# Altium footprint library Diodes.PcbLib: 57 footprints (part 3 of 4)
Each footprint in its own frame and in the unit in brackets; x right, y up, seen from the top. Pads: shape width x height; smd on the part's side, far side on the other; paste and mask are expansions set on the pad; w line width, h text height; cw(c..) or ccw(c..) is an arc to the next point about the centre after c.
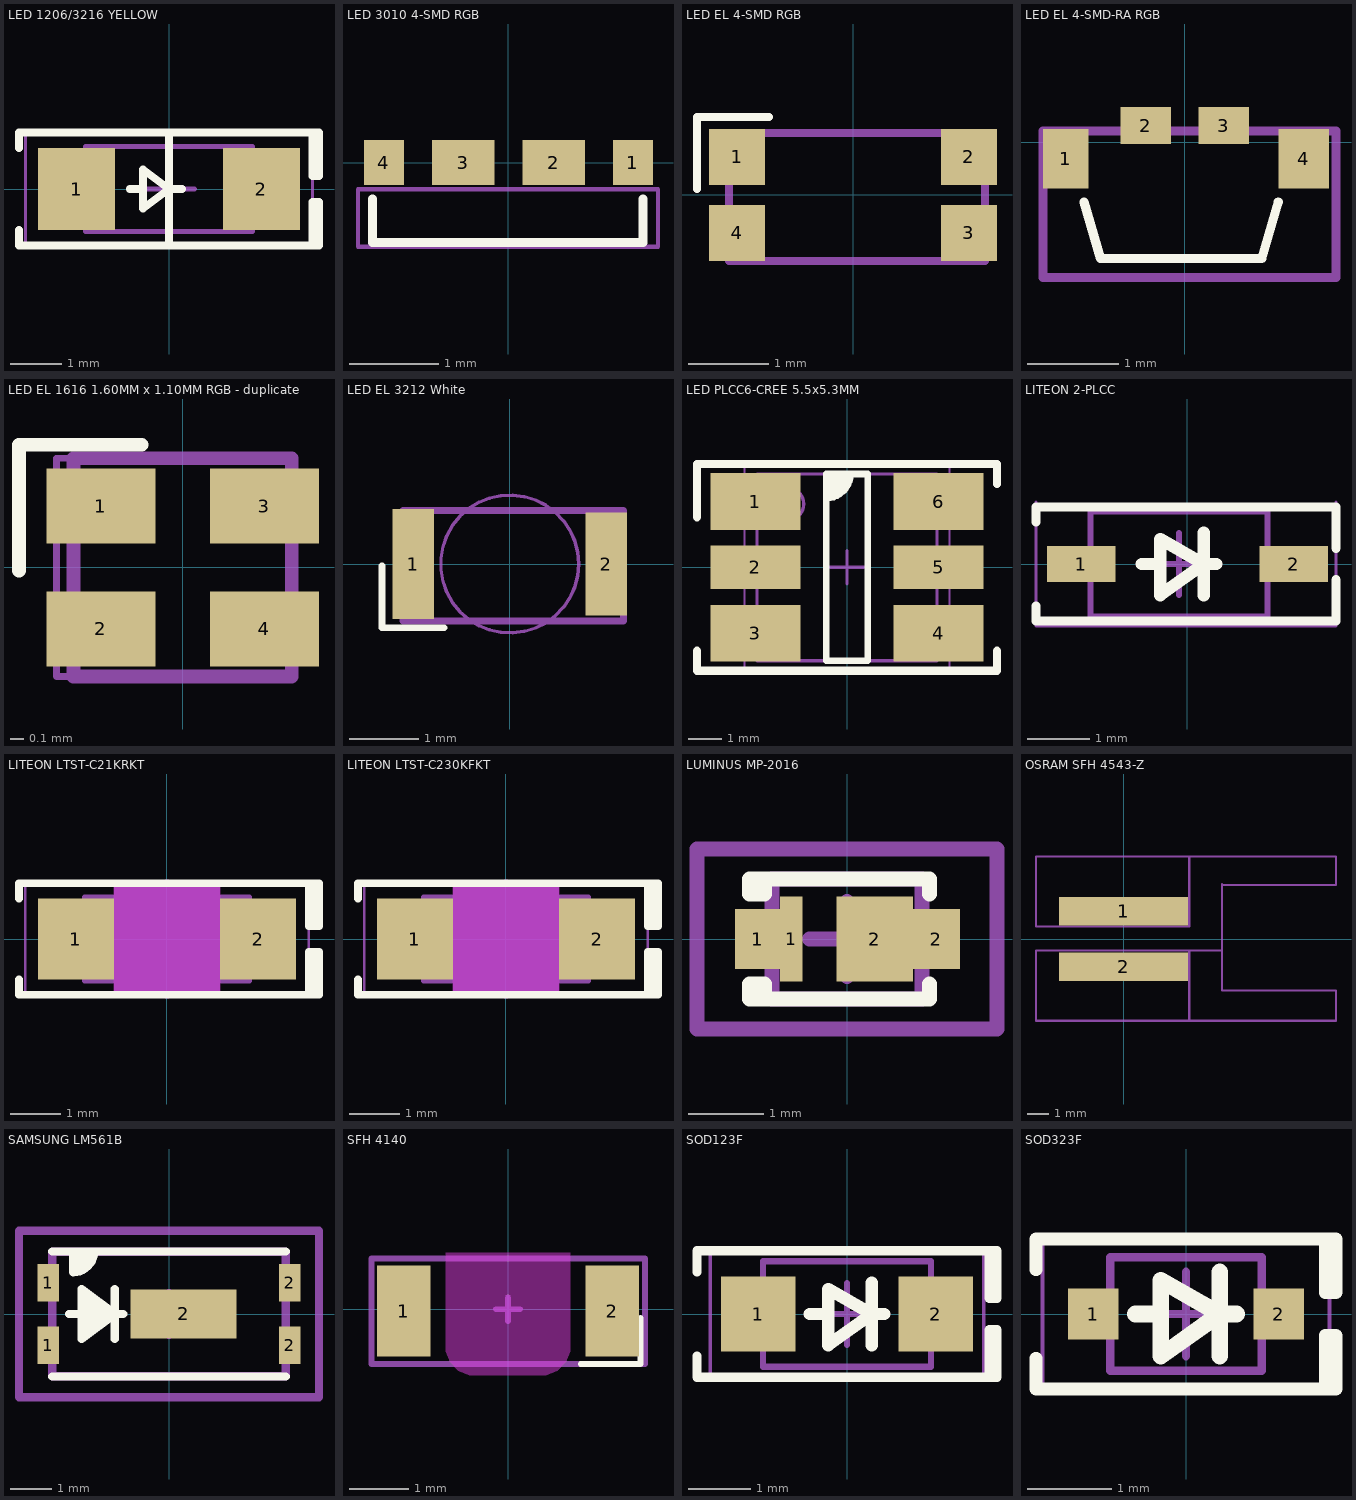
[diagram p2: the footprints below, top view; thin cyan lines are the x and y axes]

## LED 1206/3216 YELLOW [mm] "Chip Diode, 2-Leads, Body 3.13x1.55mm, IPC Medium Density"
height 0.7
pads (2):
  rect 1.5x1.6 smd: 1(-1.8,0) 2(1.8,0)
Top Overlay:
  lines w0.15: -2.921,-0.8 -2.921,-1.1 2.794,-1.1 ; -2.921,0.8 -2.921,1.1 2.794,1.1 ; -0.762,0 -0.508,0 ; 0,-1.1 0,1.1 ; 0.254,0 0,0 ; 0,0 -0.508,0.381 -0.508,-0.381 0,0 ; 2.794,-1.1 2.794,-0.254 2.921,-0.254 2.921,-1.1 2.794,-1.1 ; 2.794,1.1 2.794,0.254 2.921,0.254 2.921,1.1 2.794,1.1
Mechanical 13:
  lines w0.1: -1.625,-0.825 -1.625,0.825 1.625,0.825 1.625,-0.825 -1.625,-0.825
Mechanical 15:
  lines w0.05: -2.794,-1.1 -2.794,1.1 2.794,1.1 2.794,-1.1 -2.794,-1.1
  lines w0.1: -0.5,0 0.5,0 ; 0,-0.5 0,0.5
3D body "LED 1206 Base YELLOW.STEP": height 0.4, standoff 0, extent -1.6,-0.8 1.6,0.8
3D body "LED 1206 Lens YELLOW.STEP": height 0.9, standoff 0.3, extent -0.75,-0.8 0.75,0.8

## LED 3010 4-SMD RGB [mm] "SOJ, 6-Leads, Body 3.2x1.2mm, IPC Medium Density"
height 1
pads (4):
  rect 0.45x0.5 smd: 1(1.39,0) 4(-1.39,0)
  rect 0.7x0.5 smd: 2(0.505,0) 3(-0.505,0)
Top Overlay:
  lines w0.1: -1.52,-0.891 -1.519,-0.405 ; -1.519,-0.891 1.501,-0.891 ; 1.5,-0.891 1.501,-0.405
Mechanical 15:
  lines w0.05: -1.68,-0.94 1.67,-0.94 1.67,-0.3 -1.68,-0.3 -1.68,-0.94
3D body "EASV3010RGBA0.STEP": height 0.4, standoff 0, extent -1.504,-0.885 1.496,0.115

## LED EL 4-SMD RGB [mm] "SOJ, 6-Leads, Body 3.2x1.2mm, IPC Medium Density"
height 2.6
pads (4):
  rect 0.7x0.7 smd: 1(-1.45,0.475) 2(1.45,0.475) 3(1.45,-0.475) 4(-1.45,-0.475)
Top Overlay:
  lines w0.1: -1.95,0.07 -1.95,0.97 -1.05,0.97
Mechanical 13:
  lines w0.1: -1.55,-0.825 1.65,-0.825 1.65,0.775 -1.55,0.775 -1.55,-0.825
Mechanical 15:
  lines w0.05: -1.55,-0.825 1.65,-0.825 1.65,0.775 -1.55,0.775 -1.55,-0.825
3D body "EL 23B.step": height 0.31, standoff -0.79, extent -1.59,-0.625 1.61,0.625

## LED EL 4-SMD-RA RGB [mm] "SOJ, 6-Leads, Body 3.2x1.2mm, IPC Medium Density"
height 1
pads (4):
  rect 0.5x0.65 smd: 1(-1.3,-0.18)
  rect 0.55x0.4 smd: 2(-0.425,0.18) 3(0.425,0.18)
  rect 0.55x0.65 smd: 4(1.3,-0.18)
Top Overlay:
  lines w0.1: -1.1,-0.655 -0.921,-1.269 0.84,-1.269 1.019,-0.655
Mechanical 13:
  lines w0.1: -1.55,-1.48 1.65,-1.48 1.65,0.12 -1.55,0.12 -1.55,-1.48
Mechanical 15:
  lines w0.05: -1.55,-1.48 1.65,-1.48 1.65,0.12 -1.55,0.12 -1.55,-1.48
3D body "EASV2713RGBAx.step": height 0.5, standoff 0, extent -1.39,-1.29 1.311,0.171

## LED EL 1616 1.60MM x 1.10MM RGB - duplicate [mm] "SOJ, 6-Leads, Body 1.60x1.0mm, Pitch 0.80mm, IPC Medium Density"
height 2.6
pads (4):
  rect 0.8x0.55 smd: 1(-0.6,0.45) 2(-0.6,-0.45) 3(0.6,0.45) 4(0.6,-0.45)
Top Overlay:
  lines w0.1: -1.2,-0.025 -1.2,0.9 -0.3,0.9
Mechanical 13:
  lines w0.1: -0.8,-0.8 0.8,-0.8 0.8,0.8 -0.8,0.8 -0.8,-0.8
Mechanical 15:
  lines w0.05: -0.925,-0.8 0.8,-0.8 0.8,0.8 -0.925,0.8 -0.925,-0.8
3D body "EL 1616.STEP": height 0.46, standoff -0.05, extent -0.8,-0.8 0.8,0.8

## LED EL 3212 White [mm] "SOJ, 2-Leads, Body 3.2x1.2mm, IPC Medium Density"
height 2.6
pads (2):
  rect 0.6x1.6 smd: 1(-1.4,0)
  rect 0.6x1.5 smd: 2(1.4,0)
Top Overlay:
  lines w0.1: -1.85,-0.025 -1.85,-0.925 -0.95,-0.925
Mechanical 1:
  circle w0.05: c0,0 r1
Mechanical 13:
  lines w0.1: -1.55,-0.825 -1.55,0.775 1.65,0.775 1.65,-0.825 -1.55,-0.825
Mechanical 15:
  lines w0.05: -1.55,-0.825 -1.55,0.775 1.65,0.775 1.65,-0.825 -1.55,-0.825
3D body "EL 3212 White.step": height 0.31, standoff -0.79, extent -1.6,-0.82 1.6,0.78

## LED PLCC6-CREE 5.5x5.3MM [mm] "SOJ, 6-Leads, Body 5.60x5.50mm, Pitch 1.80mm, IPC Medium Density"
height 2.6
pads (6):
  rect 2.7x1.7 smd: 1(-2.75,1.975) 3(-2.75,-1.975) 4(2.75,-1.975) 6(2.75,1.975)
  rect 2.7x1.3 smd: 2(-2.75,0) 5(2.75,0)
Top Overlay:
  region: -0.625,2.8 0.125,2.8 0.125,2.475 -0.275,2.075 -0.625,2.075
  lines w0.2: -0.625,2.075 ccw(c-0.625,2.8) 0.1,2.8 ; -0.625,-2.8 0.625,-2.8 0.625,2.8 -0.625,2.8 -0.625,-2.8
  lines w0.254: -4.5,-2.5 -4.5,-3.1 4.5,-3.1 4.5,-2.5 ; -4.5,1.5 -4.5,3.1 4.5,3.1 4.5,2.5
Mechanical 13:
  circle w0.1: c-1.8,1.9 r0.5
  lines w0.1: -2.7,-2.8 2.7,-2.8 2.7,2.8 -2.7,2.8 -2.7,-2.8
Mechanical 15:
  lines w0.05: -3.075,-3.05 3.075,-3.05 3.075,3.05 -3.075,3.05 -3.075,-3.05
  lines w0.1: -0.5,0 0.5,0 ; 0,-0.5 0,0.5
3D body "Cree SLV6A.STEP": height 2.6, standoff 0, extent -2.75,-2.75 2.75,2.75

## LITEON 2-PLCC [mm] "SOD, 2-Leads, Body 3.8x1.00mm, IPC Medium Density"
height 0.6
pads (2):
  rect 1.1x0.58 smd: 1(-1.71,0) 2(1.71,0)
Top Overlay:
  lines w0.15: -2.435,-0.675 -2.435,-0.916 2.39,-0.916 2.39,-0.254 ; -2.435,0.675 -2.435,0.916 2.39,0.916 ; 2.39,0.916 2.39,0.254 2.39,0.916
  lines w0.2: -0.735,0 -0.435,0 ; 0.265,-0.5 0.265,0.5 ; 0.465,0 0.265,0 ; 0.265,0 -0.435,-0.5 -0.435,0.4 0.265,0
Mechanical 13:
  lines w0.1: -1.56,-0.85 1.29,-0.85 1.29,0.85 -1.56,0.85 -1.56,-0.85
Mechanical 15:
  lines w0.05: -2.435,1 -2.435,-1 2.39,-1 2.39,1 ; -2.235,0.9 2.365,0.9
  lines w0.1: -0.635,0 0.365,0 ; -0.135,-0.5 -0.135,0.5
3D body "LTW-206DCG-E2H.STEP": height 0.91, standoff 0.29, extent -0.85,1.65 2.95,2.65

## LITEON LTST-C21KRKT [mm] "Chip Diode, 2-Leads, Body 3.13x1.55mm, IPC Medium Density"
height 0.7
pads (2):
  rect 1.5x1.6 smd: 1(-1.8,0) 2(1.8,0)
Top Overlay:
  rectangle: 2.794,0.254 3,1.1
  rectangle: 2.794,-1.1 3,-0.254
  lines w0.15: -2.921,-0.8 -2.921,-1.1 2.794,-1.1 ; -2.921,0.8 -2.921,1.1 2.794,1.1 ; 2.794,-1.1 2.794,-0.254 3,-0.254 3,-1.1 2.794,-1.1 ; 2.794,1.1 2.794,0.254 3,0.254 3,1.1 2.794,1.1
Keep-Out Layer:
  board cut-out: -1.05,1.15 -1.05,-1.15 1.05,-1.15 1.05,1.15
Mechanical 13:
  lines w0.1: -1.625,-0.825 -1.625,0.825 1.625,0.825 1.625,-0.825 -1.625,-0.825
  lines w0.15: -0.762,0 -0.508,0 ; 0,-1.1 0,1.1 ; 0.254,0 0,0 ; 0,0 -0.508,0.381 -0.508,-0.381 0,0
Mechanical 15:
  lines w0.05: -2.794,-1.1 -2.794,1.1 2.794,1.1 2.794,-1.1 -2.794,-1.1
  lines w0.1: -0.5,0 0.5,0 ; 0,-0.5 0,0.5
MILLING:
  rectangle: -1.05,-1.15 1.05,1.15
3D body "LED 1206 Base RED.STEP": height 0.3, standoff -0.1, extent -1.6,-0.8 1.6,0.8
3D body "LED 1206 Lens RED.STEP": height 0, standoff -0.6, extent -0.75,-0.8 0.75,0.8

## LITEON LTST-C230KFKT [mm] "Chip Diode, 2-Leads, Body 3.13x1.55mm, IPC Medium Density"
height 0.7
pads (2):
  rect 1.5x1.6 smd: 1(-1.8,0) 2(1.8,0)
Top Overlay:
  rectangle: 2.794,-1.1 3,-0.254
  rectangle: 2.794,0.254 3,1.1
  lines w0.15: -2.921,-0.8 -2.921,-1.1 2.794,-1.1 ; -2.921,0.8 -2.921,1.1 2.794,1.1 ; 2.794,-1.1 3,-1.1 3,-0.254 2.794,-0.254 2.794,-1.1 ; 2.794,1.1 3,1.1 3,0.254 2.794,0.254 2.794,1.1
Keep-Out Layer:
  board cut-out: -1.05,1.15 -1.05,-1.15 1.05,-1.15 1.05,1.15
Mechanical 13:
  lines w0.1: -1.625,-0.825 1.625,-0.825 1.625,0.825 -1.625,0.825 -1.625,-0.825
  lines w0.15: -0.762,0 -0.508,0 ; 0,-1.1 0,1.1 ; 0.254,0 0,0 ; 0,0 -0.508,-0.381 -0.508,0.381 0,0
Mechanical 15:
  lines w0.05: -2.794,-1.1 2.794,-1.1 2.794,1.1 -2.794,1.1 -2.794,-1.1
  lines w0.1: -0.5,0 0.5,0 ; 0,-0.5 0,0.5
MILLING:
  rectangle: -1.05,-1.15 1.05,1.15
3D body "LED 0805 Lens YELLOW.STEP": height 0, standoff -0.6, extent -0.65,-0.625 0.65,0.625
3D body "LED 1206 Base YELLOW.STEP": height 0.3, standoff -0.1, extent -1.6,-0.8 1.6,0.8

## LUMINUS MP-2016 [mm]
height 0.52
pads (4):
  rect 0.6x0.8 smd: 1(-1.192,0)
  rect 0.3x1.14 smd: 1(-0.742,0)
  rect 1.02x1.14 smd: 2(0.367,0)
  rect 0.63x0.8 smd: 2(1.193,0)
Top Overlay:
  lines w0.2: 1.1,-0.6 1.1,-0.8 1,-0.8 -1.1,-0.8 ; 1.1,0.6 1.1,0.8 1,0.8 -1.1,0.8 ; -1.1,-0.8 -1.1,-0.6 -1.3,-0.6 -1.3,-0.8 -1.2,-0.8 -1.1,-0.8 ; -1.1,0.8 -1.1,0.6 -1.3,0.6 -1.3,0.8 -1.1,0.8
Mechanical 1:
  lines w0.2: -0.999,-0.799 -0.999,0.799 0.999,0.799 0.999,-0.799 -0.999,-0.799
Mechanical 15:
  lines w0.2: -0.5,0 0.5,0 ; 0,-0.5 0,0.5 ; -2,-1.2 2,-1.2 2,1.2 -2,1.2 -2,-1.2
3D body "LUMINUS MP2016.STEP": height 0.52, standoff 0, extent -0.999,-0.799 0.999,0.799

## OSRAM SFH 4543-Z [mm]
height 0.6
pads (2):
  rect 5.9x1.3 smd: 1(0,1.27) 2(0,-1.27)
Mechanical 1:
  lines w0.1: 4.5,-0.53 3,-0.53 ; 4.5,2.47 9.7,2.47 9.7,3.77 3,3.77 ; 4.5,2.5 4.5,-2.35 9.7,-2.35 9.7,-3.73 3,-3.73 ; 3,-3.73 -4,-3.73 -4,-0.53 3,-0.53 ; 3,-3.73 3,-0.53 ; 3,3.77 3,0.57 -4,0.57 -4,3.77 3,3.77
3D body "Vishay LED.STEP": height 1.85, standoff -1.35, extent -2.655,-1.628 9.955,1.572

## SAMSUNG LM561B [mm]
height 0.8
pads (5):
  rect 0.52x0.9 smd: 1(-2.9,-0.75) 1(-2.9,0.75) 2(2.9,-0.75) 2(2.9,0.75)
  rect 2.54x1.18 smd: 2(0.35,0)
Top Overlay:
  region: -1.8,1.5 -2.3,1.5 -2.3,1 -2.1,1 -1.8,1.3
  region: -2.1,0.6 -2.1,-0.6 -2,-0.6 -1.4,0 -2,0.6
  lines w0.2: -2.8,-1.5 2.8,-1.5 ; -2.8,1.5 2.8,1.5 ; -2.4,0 -1.1,0 ; -2.3,1.5 -2.3,1 ; -1.8,1.5 cw(c-2.3,1.5) -2.3,1 ; -1.3,-0.6 -1.3,0.6 ; -2.3,1 -2.3,1 ; -2.1,-0.6 -2.1,0.6 -1.3,0 -2.1,-0.6
Mechanical 1:
  lines w0.2: -2.8,-1.498 -2.8,1.498 2.8,1.498 2.8,-1.498 -2.8,-1.498
Mechanical 15:
  lines w0.2: -0.5,0 0.5,0 ; 0,-0.5 0,0.5 ; -3.6,-2 3.6,-2 3.6,2 -3.6,2 -3.6,-2
3D body "Samsung LM561B LED.STEP": height 0.8, standoff 0, extent -2.8,-1.498 2.8,1.498

## SFH 4140 [mm] "EMITTER IR 950NM 100MA SMD"
height 1.5
pads (2):
  rect 0.9x1.53 smd: 1(-1.75,-0.03) 2(1.75,-0.03)
Top Overlay:
  lines w0.1: 1.22,-0.92 2.22,-0.92 2.22,-0.145
Keep-Out Layer:
  board cut-out: -1.046,-0.61 -1.046,-0.708 -0.971,-0.889 -0.832,-1.028 -0.651,-1.103 -0.553,-1.103 -0.552,-1.103 0.547,-1.103 0.645,-1.103 0.827,-1.028 0.965,-0.889 1.04,-0.708 1.04,-0.61 1.04,0.941 1.041,0.943 0,0.943 -0.002,0.943 -1.046,0.943 -1.046,0.941
Mechanical 13:
  lines w0.1: -2.29,-0.92 2.3,-0.92 2.3,0.85 -2.29,0.85 -2.29,-0.92
Mechanical 15:
  lines w0.05: -2.29,-0.92 -2.29,0.85 2.31,0.85 2.31,-0.92 -2.29,-0.92
  lines w0.1: -0.2,0 0.2,0 ; 0.003,-0.2 0.003,0.2
3D body "OSRAM SFH 4140.step": height 0.6, standoff -0.9, extent -1.54,-0.77 1.56,0.73

## SOD123F [mm] "SODFL, 2-Leads, Body 1.60x3.50mm, IPC Medium Density"
height 1
pads (2):
  rect 1.2x1.2 smd: 1(-1.43,0) 2(1.43,0)
Top Overlay:
  lines w0.15: -2.413,-0.675 -2.413,-1.016 2.286,-1.016 ; -2.413,0.675 -2.413,1.016 2.286,1.016 ; 2.286,-1.016 2.286,-0.254 2.413,-0.254 2.413,-1.016 2.286,-1.016 ; 2.286,1.016 2.413,1.016 2.413,0.254 2.286,0.254 2.286,1.016
  lines w0.2: -0.6,0 -0.3,0 ; 0.4,-0.5 0.4,0.5 ; 0.6,0 0.4,0 ; 0.4,0 -0.3,-0.5 -0.3,0.4 0.4,0
Mechanical 13:
  lines w0.1: -1.35,-0.85 1.35,-0.85 1.35,0.85 -1.35,0.85 -1.35,-0.85
Mechanical 15:
  lines w0.05: -2.2,-1 2.2,-1 2.2,1 -2.2,1 -2.2,-1
  lines w0.1: -0.5,0 0.5,0 ; 0,-0.5 0,0.5
3D body "SOD123F.STEP": height 1.1, standoff 0, extent -1.75,-0.8 1.75,0.8

## SOD323F [mm] "SODFL, 2-Leads, Body 1.25x2.50mm, IPC Medium Density"
height 0.8
pads (2):
  rect 0.6x0.6 smd: 1(-1.1,0) 2(1.1,0)
Top Overlay:
  lines w0.15: -1.778,-0.525 -1.778,-0.889 1.778,-0.889 1.778,-0.254 1.651,-0.254 1.651,-0.889 ; -1.778,0.525 -1.778,0.889 1.778,0.889 1.778,0.254 1.651,0.254 1.651,0.889
  lines w0.2: -0.6,0 -0.3,0 ; 0.4,-0.5 0.4,0.5 ; 0.6,0 0.4,0 ; 0.4,0 -0.3,0.4 -0.3,-0.5 0.4,0
Mechanical 13:
  lines w0.1: -0.9,-0.675 -0.9,0.675 0.9,0.675 0.9,-0.675 -0.9,-0.675
Mechanical 15:
  lines w0.05: -1.7,-0.85 -1.7,0.85 1.7,0.85 1.7,-0.85 -1.7,-0.85
  lines w0.1: -0.5,0 0.5,0 ; 0,-0.5 0,0.5
3D body "SOD323F.STEP": height 0.8, standoff 0, extent -1.25,-0.625 1.25,0.625